# Altium footprint library DIP4 2.PcbLib: 1 footprints
Each footprint in its own frame and in the unit in brackets; x right, y up, seen from the top. Pads: shape width x height; smd on the part's side, far side on the other; paste and mask are expansions set on the pad; w line width, h text height; cw(c..) or ccw(c..) is an arc to the next point about the centre after c.
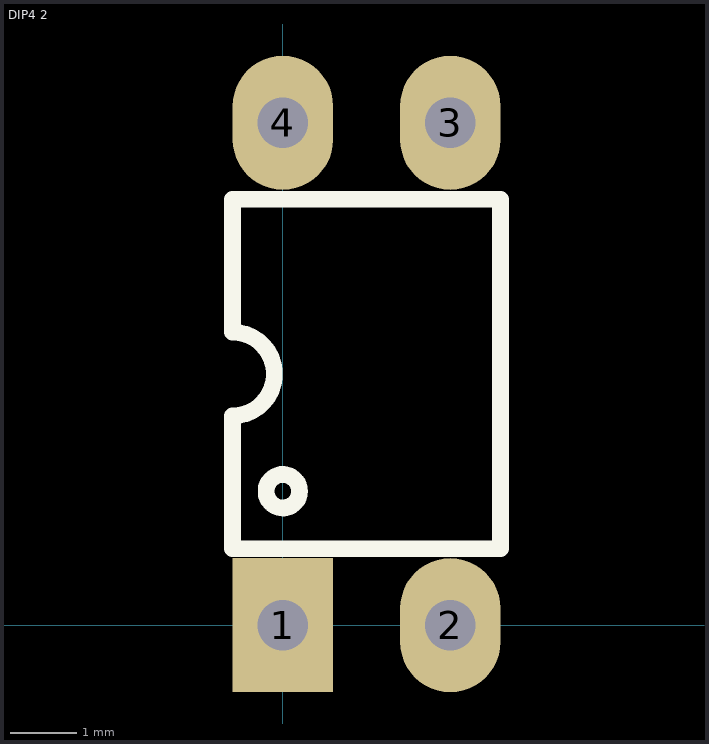
[diagram p0: the footprint, top view; thin cyan lines are the x and y axes]

## DIP4 2 [mil]
pads (4):
  rect 60x80 hole 30: 1(0,0)
  oval 60x80 hole 30: 2(100,0) 3(100,300) 4(0,300)
Top Overlay:
  circle w10: c0,80 r10
  lines w10: -30,45.67 130,45.67 130,254.33 -30,254.33 -30,175 cw(c-30,150) -30,125 -30,45.67
3D body "DIP-4.STEP": height 208.66, standoff -78.74, extent -40.32,-4.92 140,304.92